# EAGLE library part 00SPEEDY_ER9.5_SMD_8PIN (library Wurth Electronics Midcom Inc V1-0)
Package Style: Speedy ER9.5 Mounting: SMD Pins: 8 pins Bobbin: 070-2008 Best pinouts for production vary per application. Please contact Wurth Electronics Midcom, Inc. for assistance with your custom design. Website: Wurth Electronics Midcom <http://www.we-online.com/midcom> Contact us Wurth Electronics Midcom, Inc. 121 Airport Dr. Watertown, SD 57201 Phone: (605) 886-4385 Fax: (605) 886-4486 E-Mail: midcom@we-online.com
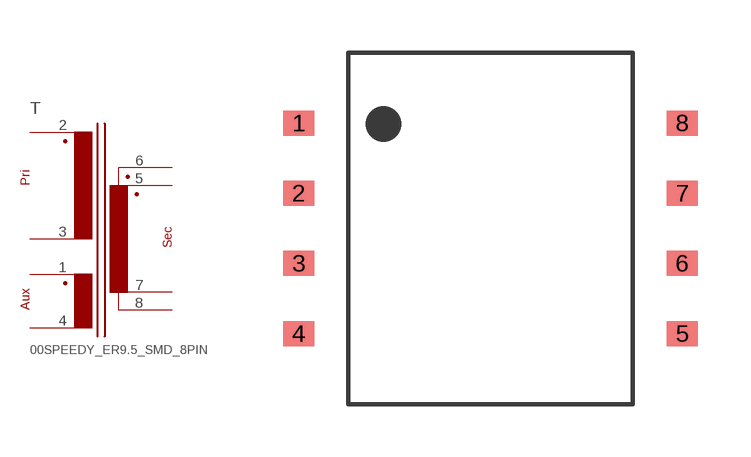
[diagram p129: symbol with the pads of 00SPEEDY_ER9.5_SMD_8PIN; footprint 00SPEEDY_ER9.5_SMD_8PIN]

Designator prefix T

## 00SPEEDY_ER9.5_SMD_8PIN  [00SPEEDY_ER9.5_SMD_8PIN]
1  3  pas
2  1  pas
3  2  pas
4  4  pas
5  7  pas
6  5  pas
7  8  pas
8  6  pas

## Footprint 00SPEEDY_ER9.5_SMD_8PIN (pad centres in mm)
Package Style: Speedy ER9.5 Mounting: SMD Pins: 8 pins Bobbin: 070-2008
smd 0.889 x 0.711: 1 -5.461,2.998; 2 -5.461,1; 3 -5.461,-1; 4 -5.461,-2.998; 5 5.461,-2.998; 6 5.461,-1; 7 5.461,1; 8 5.461,2.998